# Altium footprint library PowerBoard.PcbLib: 19 footprints (part 1 of 2)
Each footprint in its own frame and in the unit in brackets; x right, y up, seen from the top. Pads: shape width x height; smd on the part's side, far side on the other; paste and mask are expansions set on the pad; w line width, h text height; cw(c..) or ccw(c..) is an arc to the next point about the centre after c.
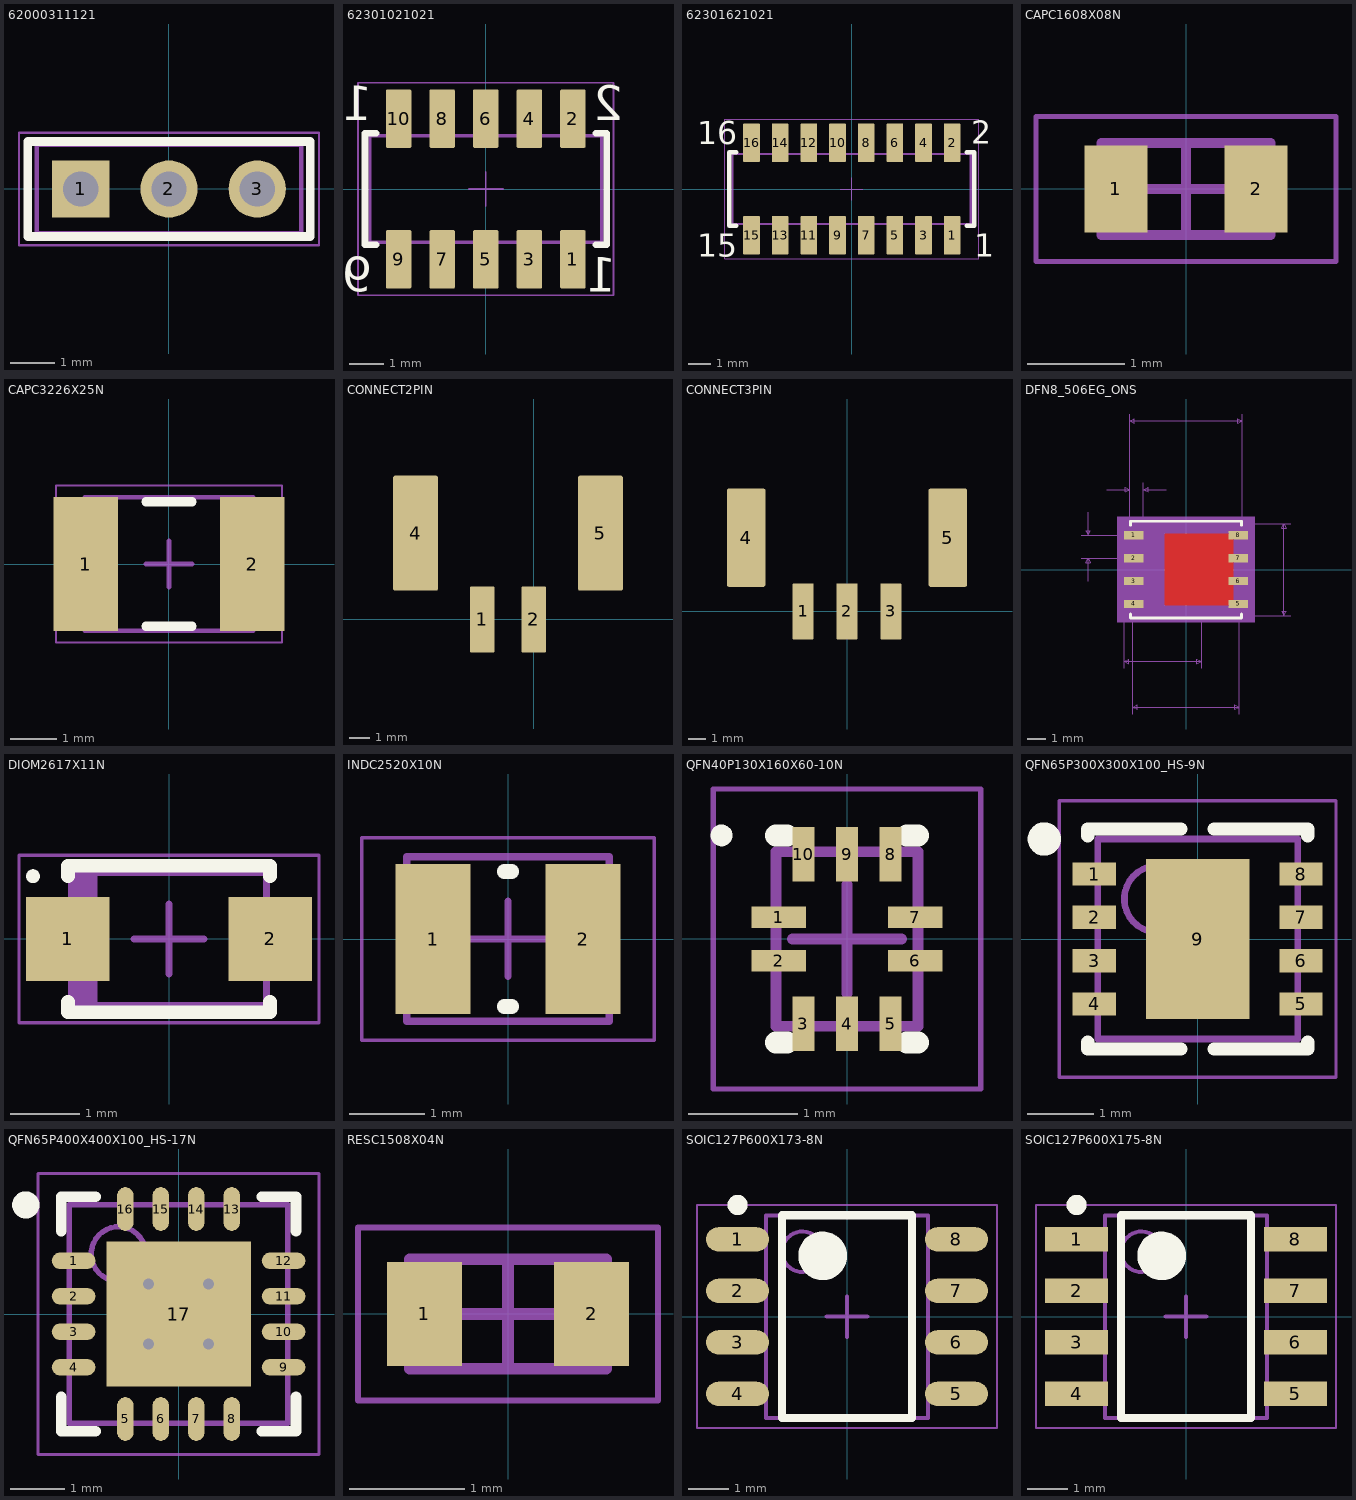
[diagram p0: the footprints below, top view; thin cyan lines are the x and y axes]

## 62000311121 [mm] "Pin Header, pitch 2.00 mm, THT, Vertical, single row, 3p"
height 6.35
pads (3):
  rect 1.3x1.3 hole 0.8: 1(-2,0)
  round 1.3 hole 0.8: 2(0,0) 3(2,0)
Top Overlay:
  lines w0.2: -3.2,-1.075 3.2,-1.075 3.2,1.075 -3.2,1.075 -3.2,-1.075
Top 3D Body:
  lines w0.1: -3,-1 3,-1 3,1 -3,1 -3,-1
Top Courtyard (Mech15):
  lines w0.05: -0.5,0 0.5,0 ; 0,-0.5 0,0.5 ; -3.4,-1.275 3.4,-1.275 3.4,1.275 -3.4,1.275 -3.4,-1.275
3D body "62000311121.stp": height 6.05, standoff -2.65, extent -3,-1 3,1

## 62301021021 [mm] "Socket Header, Pitch 1.27 mm, SMT, Vertical, dual row, 10p"
height 4.7
pads (10):
  rrect10% 0.74x1.7 smd: 1(2.54,-2.05) 2(2.54,2.05) 3(1.27,-2.05) 4(1.27,2.05) 5(0,-2.05) 6(0,2.05) 7(-1.27,-2.05) 8(-1.27,2.05) 9(-2.54,-2.05) 10(-2.54,2.05)
Top Overlay:
  lines w0.2: -3.205,-1.625 -3.525,-1.625 -3.525,1.625 -3.205,1.625 ; 3.205,-1.625 3.525,-1.625 3.525,1.625 3.205,1.625
  text "10" at -3.305,2 h1.02
  text "9" at -3.305,-3 h1.02
  text "1" at 3.805,-3 h1.02
  text "2" at 4.005,2 h1.02
Top Assembly:
  text "'.Designator'" at -1.025,-0.45 h1.5
Top 3D Body:
  lines w0.1: -2.79,-1.55 -2.79,-2.3 -2.29,-2.3 -2.29,-1.55 ; -2.79,1.55 -2.79,2.3 -2.29,2.3 -2.29,1.55 ; -1.52,-1.55 -1.52,-2.3 -1.02,-2.3 -1.02,-1.55 ; -1.52,1.55 -1.52,2.3 -1.02,2.3 -1.02,1.55 ; -0.25,-1.55 -0.25,-2.3 0.25,-2.3 0.25,-1.55 ; -0.25,1.55 -0.25,2.3 0.25,2.3 0.25,1.55 ; 1.02,-1.55 1.02,-2.3 1.52,-2.3 1.52,-1.55 ; 1.02,1.55 1.02,2.3 1.52,2.3 1.52,1.55 ; 2.29,-1.55 2.29,-2.3 2.79,-2.3 2.79,-1.55 ; 2.29,1.55 2.29,2.3 2.79,2.3 2.79,1.55 ; -3.375,-1.55 -3.375,1.55 3.375,1.55 3.375,-1.55 -3.375,-1.55
Top Courtyard (Mech15):
  lines w0.05: -0.5,0 0.5,0 ; 0,-0.5 0,0.5 ; -3.725,-3.1 3.725,-3.1 3.725,3.1 -3.725,3.1 -3.725,-3.1
3D body "62301021021.stp": height 4.6, standoff 0, extent -3.375,-2.299 3.375,2.299

## 62301621021 [mm] "Socket Header, Pitch 1.27 mm, SMT, Vertical, dual row, 16p"
height 4.7
pads (16):
  rrect10% 0.74x1.7 smd: 1(4.455,-2.05) 2(4.455,2.05) 3(3.185,-2.05) 4(3.185,2.05) 5(1.915,-2.05) 6(1.915,2.05) 7(0.645,-2.05) 8(0.645,2.05) 9(-0.625,-2.05) 10(-0.625,2.05) 11(-1.895,-2.05) 12(-1.895,2.05) 13(-3.165,-2.05) 14(-3.165,2.05) 15(-4.435,-2.05) 16(-4.435,2.05)
Top Overlay:
  lines w0.2: -5.11,-1.625 -5.43,-1.625 -5.43,1.625 -5.11,1.625 ; 5.11,-1.625 5.43,-1.625 5.43,1.625 5.11,1.625
  text "1" at 5.425,-3 h1.02
  text "2" at 5.3,2 h1.02
  text "15" at -6.85,-3 h1.02
  text "16" at -6.85,1.975 h1.02
Top Assembly:
  text "'.Designator'" at -1.075,-0.5 h1.5
Top 3D Body:
  lines w0.1: -4.695,-1.55 -4.695,-2.3 -4.195,-2.3 -4.195,-1.55 ; -4.695,1.55 -4.695,2.3 -4.195,2.3 -4.195,1.55 ; -3.425,-1.55 -3.425,-2.3 -2.925,-2.3 -2.925,-1.55 ; -3.425,1.55 -3.425,2.3 -2.925,2.3 -2.925,1.55 ; -2.155,-1.55 -2.155,-2.3 -1.655,-2.3 -1.655,-1.55 ; -2.155,1.55 -2.155,2.3 -1.655,2.3 -1.655,1.55 ; -0.885,-1.55 -0.885,-2.3 -0.385,-2.3 -0.385,-1.55 ; -0.885,1.55 -0.885,2.3 -0.385,2.3 -0.385,1.55 ; 0.385,-1.55 0.385,-2.3 0.885,-2.3 0.885,-1.55 ; 0.385,1.55 0.385,2.3 0.885,2.3 0.885,1.55 ; 1.655,-1.55 1.655,-2.3 2.155,-2.3 2.155,-1.55 ; 1.655,1.55 1.655,2.3 2.155,2.3 2.155,1.55 ; 2.925,-1.55 2.925,-2.3 3.425,-2.3 3.425,-1.55 ; 2.925,1.55 2.925,2.3 3.425,2.3 3.425,1.55 ; 4.195,-1.55 4.195,-2.3 4.695,-2.3 4.695,-1.55 ; 4.195,1.55 4.195,2.3 4.695,2.3 4.695,1.55 ; -5.28,-1.55 -5.28,1.55 5.28,1.55 5.28,-1.55 -5.28,-1.55
Top Courtyard (Mech15):
  lines w0.05: -0.5,0 0.5,0 ; 0,-0.5 0,0.5 ; -5.63,-3.1 5.63,-3.1 5.63,3.1 -5.63,3.1 -5.63,-3.1
3D body "62301621021.stp": height 4.6, standoff 0, extent -5.28,-2.299 5.28,2.299

## CAPC1608X08N [mm] "Chip Capacitor, 2-Leads, Body 1.60x0.80mm, IPC Medium Density"
height 0.8
pads (2):
  rect 0.65x0.9 smd: 1(-0.725,0) 2(0.725,0)
Top Assembly:
  lines w0.1: -0.875,-0.475 0.875,-0.475 0.875,0.475 -0.875,0.475 -0.875,-0.475
  text "'.Designator'" at -0.875,-0.475 h1.5
Top Courtyard (Mech15):
  lines w0.05: -1.55,-0.75 1.55,-0.75 1.55,0.75 -1.55,0.75 -1.55,-0.75
  lines w0.1: -0.475,0 0.475,0 ; 0,-0.475 0,0.475
3D body "CAPC1608X08N.step": height 0.8, standoff 0, extent -0.875,-0.475 0.875,0.475

## CAPC3226X25N [mm] "Chip Capacitor, 2-Leads, Body 3.22x2.55mm, IPC Medium Density"
height 2.5
pads (2):
  rect 1.4x2.9 smd: 1(-1.8,0) 2(1.8,0)
Top Overlay:
  lines w0.2: -0.5,-1.35 0.5,-1.35 ; -0.5,1.35 0.5,1.35
Top Assembly:
  lines w0.1: -1.825,-1.45 -1.825,1.45 1.825,1.45 1.825,-1.45 -1.825,-1.45
  text "'.Designator'" at -1,-0.5 h1.5
Top Courtyard (Mech15):
  lines w0.05: -2.45,-1.7 -2.45,1.7 2.45,1.7 2.45,-1.7 -2.45,-1.7
  lines w0.1: -0.5,0 0.5,0 ; 0,-0.5 0,0.5
3D body "CAPC3226X25N.step": height 2.5, standoff 0, extent -1.825,-1.45 1.825,1.45

## CONNECT2PIN [mm]
pads (4):
  rrect10% 1.2x3.2 smd: 1(-2.5,0) 2(0,0)
  rrect10% 2.2x5.6 smd: 4(-5.75,4.2) 5(3.25,4.2)
3D body "pxc_1778764_01_PTSM-0-5-2-HH-2-5-SMD-R32_3D.stp": height 5, standoff -0.7, extent -6.575,-1.3 4.025,8.2

## CONNECT3PIN [mm]
pads (5):
  rrect10% 1.2x3.2 smd: 1(-2.5,0) 2(0,0) 3(2.5,0)
  rrect10% 2.2x5.6 smd: 4(-5.75,4.2) 5(5.75,4.2)
3D body "pxc_1778777_01_PTSM-0-5-3-HH-2-5-SMD-R32_3D.stp": height 5, standoff -0.7, extent -6.55,-1.3 6.55,8.2

## DFN8_506EG_ONS [mil]
pads (8):
  rect 42x18 smd paste+0 mask+0: 1(-114,75) 2(-114,25) 3(-114,-25) 4(-114,-75) 5(114,-75) 6(114,-25) 7(114,25) 8(114,75)
Top Layer:
  region: 103,-78 103,78 -46,78 -46,-78
Top Overlay:
  lines w6: -121,-97.1 -121,-105.5 121,-105.5 121,-97.1 ; -121,97.1 -121,105.5 121,105.5 121,97.1
Top Paste:
  region: 103,-78 103,78 -46,78 -46,-78
Top Solder:
  region: 103,-78 103,78 -46,78 -46,-78
Mechanical 5:
  region: 150,-115.5 -150,-115.5 -150,115.5 150,115.5
Mechanical 7:
  lines w1: -229,25 -114,25 ; -229,75 -114,75 ; -214,-25 -214,25 ; -214,125 -214,75 ; -173,175 -123,175 ; -135,-215.5 -135,-78 ; -123,190 -123,75 -123,340 ; -116,-315.5 -116,-100.5 ; -93,75 -93,190 ; -43,175 -93,175 ; 34,-215.5 34,-78 ; 116,-315.5 116,-100.5 229,-100.5 ; 116,100.5 229,100.5 ; 123,75 123,340 ; -214,25 -209,15 -219,15 -214,25 ; -214,75 -209,85 -219,85 -214,75 ; -135,-200.5 -125,-205.5 -125,-195.5 -135,-200.5 ; -135,-200.5 34,-200.5 ; -123,175 -133,170 -133,180 -123,175 ; -123,325 -113,320 -113,330 -123,325 ; -123,325 123,325 ; -116,-300.5 -106,-305.5 -106,-295.5 -116,-300.5 ; -116,-300.5 116,-300.5 ; -93,175 -83,170 -83,180 -93,175 ; 34,-200.5 24,-205.5 24,-195.5 34,-200.5 ; 116,-300.5 106,-305.5 106,-295.5 116,-300.5 ; 123,325 113,320 113,330 123,325 ; 214,-100.5 219,-90.5 209,-90.5 214,-100.5 ; 214,-100.5 214,100.5 ; 214,100.5 219,90.5 209,90.5 214,100.5
  text "0.169in/4.293mm" at -144.25,-245.5 h25
  text "0.232in/5.893mm" at -93.75,-345.5 h25
  text "0.201in/5.105mm" at 234,-12.5 h25
  text "0.05in/1.27mm" at -396.5,37.5 h25
  text "0.03in/0.762mm" at -195.5,195 h25
  text "0.246in/6.248mm" at -93.75,345 h25
  text "Alt 2 Padstyle: OX90Y60D30P" at -337.5,-625.5 h50
  text "Alt 1 Padstyle: OX60Y90D30P" at -337.5,-550.5 h50
  text "Default Padstyle: RX42Y18D0T" at -350,-475.5 h50
Top Assembly:
  text "'.Designator'" at -34.45,-18.7 h59.06
Top 3D Body:
  lines w0: -12,100.5 ccw(c0,100.5) 12,100.5
  lines w1: -116,-100.5 -116,100.5 116,100.5 116,-100.5 -116,-100.5
Top Courtyard (Mech15):
  region: -126,-102 -145,-102 -145,102 -126,102 -126,110.5 126,110.5 126,102 145,102 145,-102 126,-102 126,-110.5 -126,-110.5
  lines w6: -145,-102 -126,-102 -126,-110.5 126,-110.5 126,-102 145,-102 145,102 126,102 126,110.5 -126,110.5 -126,102 -145,102 -145,-102
3D body "DFN8_506EG_ONS.step": height 39.09, standoff 0, extent -122.99,-100.5 123,100.52
3D body: height 10, standoff 0, extent 0,0 10,10

## DIOM2617X11N [mm] "Molded Diode, 2-Leads, Body 2.60x1.70mm, IPC Medium Density"
height 1.1
pads (2):
  rect 1.2x1.2 smd: 1(-1.45,0) 2(1.45,0)
Top Overlay:
  circle w0.1: c-1.95,0.9 r0.05
  lines w0.2: -1.45,-0.9 -1.45,-1.05 1.45,-1.05 1.45,-0.9 ; -1.45,0.9 -1.45,1.05 1.45,1.05 1.45,0.9
Top Assembly:
  rectangle: -1.4,-0.95 -1.023,0.95
  lines w0.1: -1.4,-0.95 1.4,-0.95 1.4,0.95 -1.4,0.95 -1.4,-0.95
  text "'.Designator'" at -0.875,-0.475 h1.5
Top Courtyard (Mech15):
  lines w0.05: -2.15,-1.2 2.15,-1.2 2.15,1.2 -2.15,1.2 -2.15,-1.2
  lines w0.1: -0.5,0 0.5,0 ; 0,-0.5 0,0.5
3D body "User Library-SOD123W.step": height 1.1, standoff -0.01, extent -2,-0.95 2,0.95

## INDC2520X10N [mm] "Chip Inductor, 2-Leads, Body 2.50x2.00mm, IPC Medium Density"
height 1
pads (2):
  rect 1x2 smd: 1(-1,0) 2(1,0)
Top Overlay:
  lines w0.2: -0.05,-0.9 0.05,-0.9 ; -0.05,0.9 0.05,0.9
Top Assembly:
  lines w0.1: -1.35,-1.1 -1.35,1.1 1.35,1.1 1.35,-1.1 -1.35,-1.1
Top Courtyard (Mech15):
  lines w0.05: -1.95,-1.35 -1.95,1.35 1.95,1.35 1.95,-1.35 -1.95,-1.35
  lines w0.1: -0.5,0 0.5,0 ; 0,-0.5 0,0.5
3D body "INDC2520X10N.step": height 1, standoff 0, extent -1.35,-1.1 1.35,1.1

## QFN40P130X160X60-10N [mm] "QFN, 10-Leads, Body 1.30x1.60mm, Pitch 0.40mm, IPC Medium Density"
height 0.6
pads (10):
  rect 0.5x0.2 smd: 1(-0.625,0.2) 2(-0.625,-0.2) 6(0.625,-0.2) 7(0.625,0.2)
  rect 0.2x0.5 smd: 3(-0.4,-0.775) 4(0,-0.775) 5(0.4,-0.775) 8(0.4,0.775) 9(0,0.775) 10(-0.4,0.775)
Top Overlay:
  circle w0.1: c-1.15,0.95 r0.05
  lines w0.2: -0.65,-0.95 -0.55,-0.95 ; -0.65,0.95 -0.55,0.95 ; 0.55,-0.95 0.65,-0.95 ; 0.55,0.95 0.65,0.95
Top Assembly:
  lines w0.1: -0.65,-0.8 -0.65,0.8 0.65,0.8 0.65,-0.8 -0.65,-0.8
  text "'.Designator'" at -1.1,-0.45 h1.5
Top Courtyard (Mech15):
  lines w0.05: -1.225,-1.375 -1.225,1.375 1.225,1.375 1.225,-1.375 -1.225,-1.375
  lines w0.1: -0.5,0 0.5,0 ; 0,-0.5 0,0.5
3D body "QFN40P130X160X60-10N.step": height 0.6, standoff 0, extent -0.67,-0.82 0.67,0.82

## QFN65P300X300X100_HS-9N [mm] "QFN, 8-Leads, Body 3.00x3.00mm, Pitch 0.65mm, Thermal Pad 1.55x2.40mm, IPC Medium Density"
height 1
pads (9):
  rect 0.65x0.35 smd: 1(-1.55,0.975) 2(-1.55,0.325) 3(-1.55,-0.325) 4(-1.55,-0.975) 5(1.55,-0.975) 6(1.55,-0.325) 7(1.55,0.325) 8(1.55,0.975)
  rect 1.55x2.4 smd: 9(0,0)
Top Overlay:
  circle w0.25: c-2.3,1.5 r0.125
  lines w0.2: -1.65,-1.55 -1.65,-1.65 -0.25,-1.65 ; -1.65,1.55 -1.65,1.65 -0.25,1.65 ; 0.25,-1.65 1.65,-1.65 1.65,-1.55 ; 0.25,1.65 1.65,1.65 1.65,1.55
Top Assembly:
  circle w0.1: c-0.6,0.6 r0.5
  lines w0.1: -1.5,-1.5 -1.5,1.5 1.5,1.5 1.5,-1.5 -1.5,-1.5
  text "'.Designator'" at -0.85,-0.475 h1.5
Top Courtyard (Mech15):
  lines w0.05: -2.075,-2.075 -2.075,2.075 2.075,2.075 2.075,-2.075 -2.075,-2.075
  lines w0.1: -0.5,0 0.5,0 ; 0,-0.5 0,0.5
3D body "QFN65P300X300X100_HS-9N.step": height 1, standoff 0, extent -1.501,-1.5 1.501,1.5

## QFN65P400X400X100_HS-17N [mm] "QFN, 16-Leads, Body 4.00x4.00mm, Pitch 0.65mm, Thermal Pad 2.65x2.65mm, IPC Medium Density"
height 1
pads (17):
  oval 0.8x0.3 smd: 1(-1.925,0.975) 2(-1.925,0.325) 3(-1.925,-0.325) 4(-1.925,-0.975) 9(1.925,-0.975) 10(1.925,-0.325) 11(1.925,0.325) 12(1.925,0.975)
  oval 0.3x0.8 smd: 5(-0.975,-1.925) 6(-0.325,-1.925) 7(0.325,-1.925) 8(0.975,-1.925) 13(0.975,1.925) 14(0.325,1.925) 15(-0.325,1.925) 16(-0.975,1.925)
  rect 2.65x2.65 smd: 17(0,0)
via 0.55,-0.55 diameter 0.5 hole 0.2
via -0.55,-0.55 diameter 0.5 hole 0.2
via 0.55,0.55 diameter 0.5 hole 0.2
via -0.55,0.55 diameter 0.5 hole 0.2
Top Overlay:
  circle w0.25: c-2.8,2 r0.125
  lines w0.2: -2.15,-1.525 -2.15,-2.15 -1.525,-2.15 ; -2.15,1.525 -2.15,2.15 -1.525,2.15 ; 1.525,-2.15 2.15,-2.15 2.15,-1.525 ; 1.525,2.15 2.15,2.15 2.15,1.525
Top Assembly:
  circle w0.1: c-1.1,1.1 r0.5
  lines w0.1: -2,-2 2,-2 2,2 -2,2 -2,-2
  text "'.Designator'" at -1.125,-0.475 h1.5
Top Courtyard (Mech15):
  lines w0.05: -2.575,-2.575 2.575,-2.575 2.575,2.575 -2.575,2.575 -2.575,-2.575
  lines w0.1: -0.5,0 0.5,0 ; 0,-0.5 0,0.5
3D body "QFN65P400X400X100_HS-17N.step": height 1, standoff 0, extent -2.05,-2.05 2.05,2.05

## RESC1508X04N [mm] "Chip Resistor, 2-Leads, Body 1.55x0.80mm, IPC Medium Density"
height 0.45
pads (2):
  rect 0.65x0.9 smd: 1(-0.725,0) 2(0.725,0)
Top Assembly:
  lines w0.1: -0.85,-0.475 0.85,-0.475 0.85,0.475 -0.85,0.475 -0.85,-0.475
  text "'.Designator'" at -1,-0.5 h1.5
Top Courtyard (Mech15):
  lines w0.05: -1.3,-0.75 1.3,-0.75 1.3,0.75 -1.3,0.75 -1.3,-0.75
  lines w0.1: -0.475,0 0.475,0 ; 0,-0.475 0,0.475
3D body "RESC1508X04N.step": height 0.45, standoff 0, extent -0.85,-0.475 0.85,0.475

## SOIC127P600X173-8N [mm] "SOIC, 8-Leads, Body 4.89x3.90mm, Pitch 1.27mm, IPC Medium Density"
height 1.73
pads (8):
  oval 1.55x0.6 smd: 1(-2.7,1.905) 2(-2.7,0.635) 3(-2.7,-0.635) 4(-2.7,-1.905) 5(2.7,-1.905) 6(2.7,-0.635) 7(2.7,0.635) 8(2.7,1.905)
Top Overlay:
  circle w0.25: c-2.7,2.755 r0.125
  circle w0.6: c-0.6,1.5 r0.3
  lines w0.2: -1.6,-2.5 -1.6,2.5 1.6,2.5 1.6,-2.5 -1.6,-2.5
Top Assembly:
  circle w0.1: c-1.1,1.6 r0.5
  lines w0.1: -2,-2.5 -2,2.5 2,2.5 2,-2.5 -2,-2.5
  text "'.Designator'" at -1.025,-0.45 h1.5
Top Courtyard (Mech15):
  lines w0.05: -3.7,-2.75 -3.7,2.75 3.7,2.75 3.7,-2.75 -3.7,-2.75
  lines w0.1: -0.5,0 0.5,0 ; 0,-0.5 0,0.5
3D body "SOIC127P600X173-8N.step": height 1.73, standoff 0, extent -3,-2.5 3,2.5

## SOIC127P600X175-8N [mm] "SOIC, 8-Leads, Body 4.90x3.90mm, Pitch 1.27mm, IPC Medium Density"
height 1.75
pads (8):
  rect 1.55x0.6 smd: 1(-2.7,1.905) 2(-2.7,0.635) 3(-2.7,-0.635) 4(-2.7,-1.905) 5(2.7,-1.905) 6(2.7,-0.635) 7(2.7,0.635) 8(2.7,1.905)
Top Overlay:
  circle w0.25: c-2.7,2.755 r0.125
  circle w0.6: c-0.6,1.5 r0.3
  lines w0.2: -1.6,-2.5 -1.6,2.5 1.6,2.5 1.6,-2.5 -1.6,-2.5
Top Assembly:
  circle w0.1: c-1.1,1.6 r0.5
  lines w0.1: -2,-2.5 -2,2.5 2,2.5 2,-2.5 -2,-2.5
  text "'.Designator'" at -1.05,-0.525 h1.5
Top Courtyard (Mech15):
  lines w0.05: -3.7,-2.75 -3.7,2.75 3.7,2.75 3.7,-2.75 -3.7,-2.75
  lines w0.1: -0.5,0 0.5,0 ; 0,-0.5 0,0.5
3D body "SOIC127P600X175-8N.step": height 1.75, standoff 0, extent -3,-2.5 3,2.5